# EAGLE library part BGB203_BLUETOOTH (library LM4880)
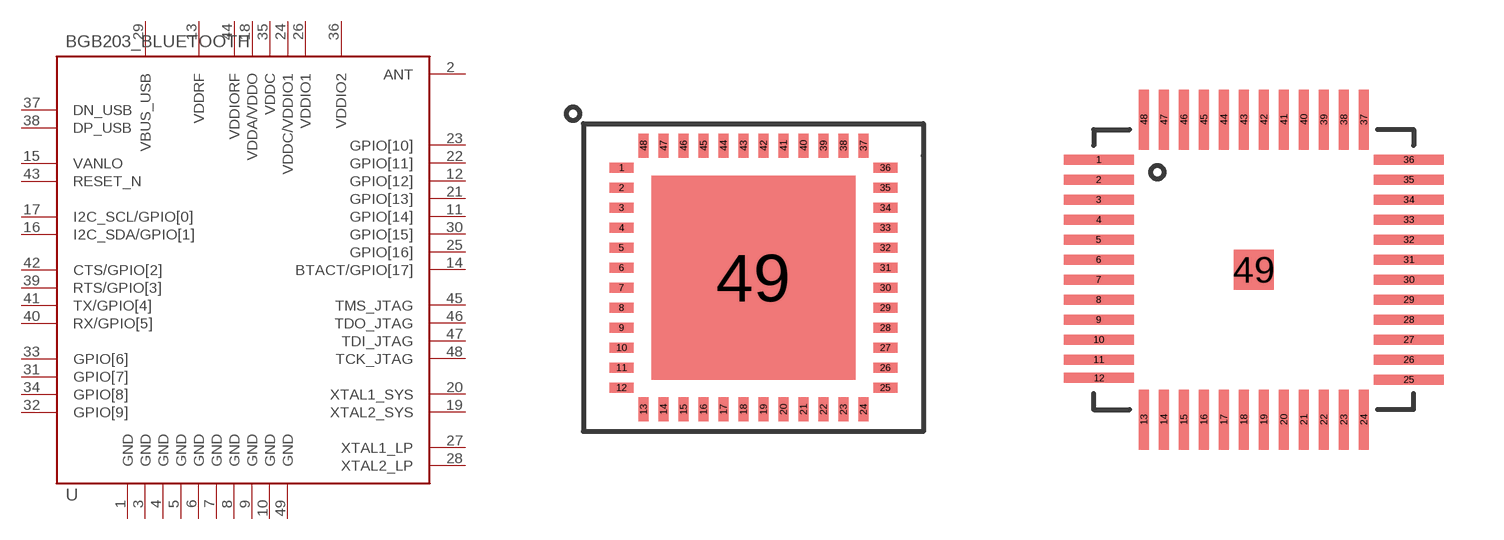
[diagram p60: symbol with the pads of BGB203_ORIGINAL; footprints BGB203_ORIGINAL, BGB203]

Designator prefix -

## BGB203_BLUETOOTHOLD  [BGB203_ORIGINAL]
1  GND
2  ANT
3  GND
4  GND
5  GND
6  GND
7  GND
8  GND
9  GND
10  GND
11  GPIO[14]
12  GPIO[12]
13  VDDRF
14  BTACT/GPIO[17]
15  VANLO
16  I2C_SDA/GPIO[1]
17  I2C_SCL/GPIO[0]
18  VDDA/VDDO
19  XTAL2_SYS
20  XTAL1_SYS
21  GPIO[13]
22  GPIO[11]
23  GPIO[10]
24  VDDC/VDDIO1
25  GPIO[16]
26  VDDIO1
27  XTAL1_LP
28  XTAL2_LP
29  VBUS_USB
30  GPIO[15]
31  GPIO[7]
32  GPIO[9]
33  GPIO[6]
34  GPIO[8]
35  VDDC
36  VDDIO2
37  DN_USB
38  DP_USB
39  RTS/GPIO[3]
40  RX/GPIO[5]
41  TX/GPIO[4]
42  CTS/GPIO[2]
43  RESET_N
44  VDDIORF
45  TMS_JTAG
46  TDO_JTAG
47  TDI_JTAG
48  TCK_JTAG
49  GND

## BGB203_BLUETOOTHSMD  [BGB203]
Pads as for BGB203_ORIGINAL

## Footprint BGB203_ORIGINAL (pad centres in mm)
smd 0.6 x 0.25: 1 0,0; 2 0,-0.5; 3 0,-1; 4 0,-1.5; 5 0,-2; 6 0,-2.5; 7 0,-3; 8 0,-3.5; 9 0,-4; 10 0,-4.5; 11 0,-5; 12 0,-5.5; 25 6.6,-5.5; 26 6.6,-5; 27 6.6,-4.5; 28 6.6,-4; 29 6.6,-3.5; 30 6.6,-3; 31 6.6,-2.5; 32 6.6,-2; 33 6.6,-1.5; 34 6.6,-1; 35 6.6,-0.5; 36 6.6,0
smd 0.25 x 0.6: 13 0.55,-6.045; 14 1.05,-6.045; 15 1.55,-6.045; 16 2.05,-6.045; 17 2.55,-6.045; 18 3.05,-6.045; 19 3.55,-6.045; 20 4.05,-6.045; 21 4.55,-6.045; 22 5.05,-6.045; 23 5.55,-6.045; 24 6.05,-6.045; 37 6.05,0.55; 38 5.55,0.55; 39 5.05,0.55; 40 4.55,0.55; 41 4.05,0.55; 42 3.55,0.55; 43 3.05,0.55; 44 2.55,0.55; 45 2.05,0.55; 46 1.55,0.55; 47 1.05,0.55; 48 0.55,0.55
smd 5.1 x 5.1: 49 3.3,-2.75

## Footprint BGB203 (pad centres in mm)
smd 1.75 x 0.25: 1 -3.88,2.75; 2 -3.88,2.25; 3 -3.88,1.75; 4 -3.88,1.25; 5 -3.88,0.75; 6 -3.88,0.25; 7 -3.88,-0.25; 8 -3.88,-0.75; 9 -3.88,-1.25; 10 -3.88,-1.75; 11 -3.88,-2.25; 12 -3.87,-2.71; 25 3.88,-2.75; 26 3.88,-2.25; 27 3.88,-1.75; 28 3.88,-1.25; 29 3.88,-0.75; 30 3.88,-0.25; 31 3.88,0.25; 32 3.88,0.75; 33 3.88,1.25; 34 3.88,1.75; 35 3.88,2.25; 36 3.88,2.75
smd 0.25 x 1.5: 13 -2.75,-3.75; 14 -2.25,-3.75; 15 -1.75,-3.75; 16 -1.25,-3.75; 17 -0.75,-3.75; 18 -0.25,-3.75; 19 0.25,-3.75; 20 0.75,-3.75; 21 1.25,-3.75; 22 1.75,-3.75; 23 2.25,-3.75; 24 2.75,-3.75; 37 2.75,3.75; 38 2.25,3.75; 39 1.75,3.75; 40 1.25,3.75; 41 0.75,3.75; 42 0.25,3.75; 43 -0.25,3.75; 44 -0.75,3.75; 45 -1.25,3.75; 46 -1.75,3.75; 47 -2.25,3.75; 48 -2.75,3.75
smd 1 x 1: 49 0,0